# Altium schematic symbol library BLM21BD182SZ1D.SchLib: 1 symbol
Pins are listed as number, name and electrical type; pins without a type are passive.

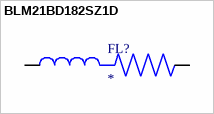
[diagram p0: symbol BLM21BD182SZ1D]

## BLM21BD182SZ1D
designator FL?
MP: BLM21BD182SZ1D; Package: None; Price: None; Value: *; Availability: Unavailable
footprint BEADC2012X105N
pins: 1, 2